# Altium integrated library Q-Resistors.IntLib: 917 symbols (part 7 of 8)
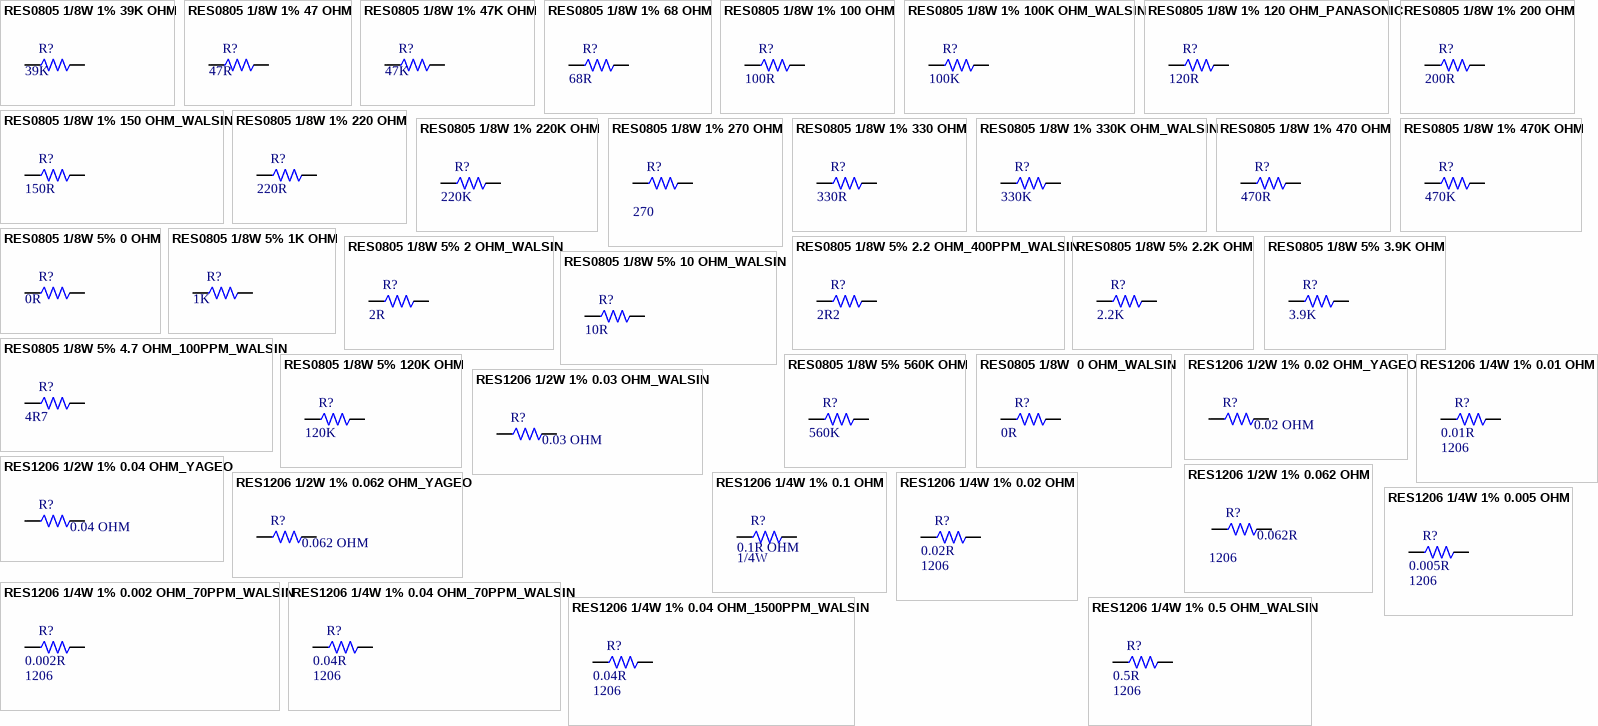
[diagram p28: symbols RES0805 1/8W 1% 39K OHM to RES1206 1/4W 1% 0.5 OHM_WALSIN]

## RES0805 1/8W 1% 470 OHM
designator R?, comment value 470R  (hidden comment: QCF081020-4700)
GP CHIP RES. 470 OHM 1/8W 1% 0805; Vendor Code: 10010262; SAP: T502470003399; Vendor Name: 东莞市晴远电子有限公司; DIP&SMD: SMD; Power: 1/8W; MFG Part: *; MFG: *; TOL: 1%; Type: Resistor; PACKAGE: 0805; Customer Specific: N/A
footprint 0805-RW
footprint 0805-SW
pins: 1, 2

## RES0805 1/8W 1% 470K OHM
designator R?, comment value 470K  (hidden comment: QCF081020-4703)
CHIP RES. 470K OHM 1/8W 1% 0805; Vendor Code: 10010262; SAP: T502470303399; Vendor Name: 东莞市晴远电子有限公司; DIP&SMD: SMD; Power: 1/8W; MFG Part: *; MFG: *; TOL: 1%; Type: Resistor; PACKAGE: 0805; Customer Specific: N/A
footprint 0805-RW
footprint 0805-SW
pins: 1, 2

## RES0805 1/8W 5% 0 OHM
designator R?, comment value 0R  (hidden comment: QCF085020-0000)
GP CHIP RES. 0 OHM 1/8W 5% 0805; Vendor Code: 10010262; SAP: T5020000034A9; Vendor Name: 东莞市晴远电子有限公司; MFG: WALSIN (華新); DIP&SMD: SMD; Power: 1/8W; MFG Part: *; TOL: 5%; Type: Resistor; PACKAGE: 0805; Customer Specific: N/A
footprint 0805-RW
footprint 0805-SW
pins: 1, 2

## RES0805 1/8W 5% 1K OHM
designator R?, comment value 1K  (hidden comment: QCF085020-1020)
GP CHIP RES. 1K OHM 1/8W 5% 0805; Vendor Code: 10010262; SAP: T502010203499; Vendor Name: 东莞市晴远电子有限公司; DIP&SMD: SMD; Power: 1/8W; MFG Part: *; MFG: *; TOL: 5%; Type: Resistor; PACKAGE: 0805; Customer Specific: N/A
footprint 0805-RW
footprint 0805-SW
pins: 1, 2

## RES0805 1/8W 5% 2 OHM_WALSIN
designator R?, comment value 2R  (hidden comment: T502020A034A9)
CHIP 2 OHM 200PPM +-5% 0805 WALS G; Power: 1/8W; MFG: WALSIN (華新); TOL: 5%; CREATE_Name: Nathan; DIP&SMD: SMD; Vendor Code: *; SAP: T502020A034A9; Vendor Name: *; MFG Part: *; Type: Resistor; CREATE_Time: 03-July-2016; PACKAGE: 0805; Customer Specific: N/A
footprint 0805-RW
footprint 0805-SW
pins: 1, 2

## RES0805 1/8W 5% 2.2 OHM_400PPM_WALSIN
designator R?, comment value 2R2  (hidden comment: T502022A034B9)
CHIP 2.2 OHM 400PPM +-5% 0805 WALS L; Power: 1/8W; MFG: WALSIN (華新); TOL: 5%; CREATE_Name: Nathan; DIP&SMD: SMD; Vendor Code: *; SAP: T502022A034B9; Vendor Name: *; MFG Part: *; Type: Resistor; CREATE_Time: 03-July-2016; PACKAGE: 0805; Customer Specific: N/A
footprint 0805-RW
footprint 0805-SW
pins: 1, 2

## RES0805 1/8W 5% 2.2K OHM
designator R?, comment value 2.2K  (hidden comment: QCF085020-2220)
GP CHIP RES. 2.2K OHM 1/8W 5% 0805; Vendor Code: 10010262; SAP: T502022203499; Vendor Name: 东莞市晴远电子有限公司; DIP&SMD: SMD; Power: 1/8W; MFG Part: *; MFG: *; TOL: 5%; Type: Resistor; PACKAGE: 0805; Customer Specific: N/A
footprint 0805-RW
footprint 0805-SW
pins: 1, 2

## RES0805 1/8W 5% 3.9K OHM
designator R?, comment value 3.9K  (hidden comment: QCF085020-3920)
GP CHIP RES. 3.9K OHM 1/8W 5% 0805; Vendor Code: 10010262; SAP: T502039203499; Vendor Name: 东莞市晴远电子有限公司; DIP&SMD: SMD; Power: 1/8W; MFG Part: *; MFG: *; TOL: 5%; Type: Resistor; PACKAGE: 0805; Customer Specific: N/A
footprint 0805-RW
footprint 0805-SW
pins: 1, 2

## RES0805 1/8W 5% 4.7 OHM_100PPM_WALSIN
designator R?, comment value 4R7  (hidden comment: T502047A03499)
CHIP 4.7 OHM   100PPM +-5% 0805 WALS L; Power: 1/8W; MFG: WALSIN (華新); TOL: 5%; CREATE_Name: Nathan; DIP&SMD: SMD; Vendor Code: *; SAP: T502047A03499; Vendor Name: *; MFG Part: *; Type: Resistor; CREATE_Time: 03-July-2016; PACKAGE: 0805; Customer Specific: N/A
footprint 0805-RW
footprint 0805-SW
pins: 1, 2

## RES0805 1/8W 5% 10 OHM_WALSIN
designator R?, comment value 10R  (hidden comment: T5020100034A9)
CHIP 10 OHM 200PPM +-5% 0805 WALS L; Power: 1/8W; MFG: WALSIN (華新); TOL: 5%; CREATE_Name: Nathan; DIP&SMD: SMD; Vendor Code: *; SAP: T5020100034A9; Vendor Name: *; MFG Part: *; Type: Resistor; CREATE_Time: 03-July-2016; PACKAGE: 0805; Customer Specific: N/A
footprint 0805-RW
footprint 0805-SW
pins: 1, 2

## RES0805 1/8W 5% 120K OHM
designator R?, comment value 120K  (hidden comment: QCF085020-1240)
GP CHIP RES. 120K OHM 1/8W 5% 0805; Vendor Code: 10010262; SAP: T502012403499; Vendor Name: 东莞市晴远电子有限公司; DIP&SMD: SMD; Power: 1/8W; MFG Part: *; MFG: *; TOL: 5%; Type: Resistor; PACKAGE: 0805; Customer Specific: N/A
footprint 0805-RW
footprint 0805-SW
pins: 1, 2

## RES0805 1/8W 5% 560K OHM
designator R?, comment value 560K  (hidden comment: QCF085020-5640)
GP CHIP RES. 560K OHM 1/8W 5% 0805; Vendor Code: 10010262; SAP: T502056403499; Vendor Name: 东莞市晴远电子有限公司; DIP&SMD: SMD; Power: 1/8W; MFG Part: *; MFG: *; TOL: 5%; Type: Resistor; PACKAGE: 0805; Customer Specific: N/A
footprint 0805-RW
footprint 0805-SW
pins: 1, 2

## RES0805 1/8W  0 OHM_WALSIN
designator R?, comment value 0R  (hidden comment: T502000003009)
CHIP 0 OHM 0 OHM 0 OHM 0805 WALSI L; Power: 1/8W; MFG: WALSIN; CREATE_Name: Tom; DIP&SMD: SMD; Vendor Code: *; SAP: T502000003009; Vendor Name: *; MFG Part: *; TOL: *; Type: Resistor; CREATE_Time: 27-Jun-2018; PACKAGE: 0805; Customer Specific: N/A
footprint 0805-RW
footprint 0805-SW
pins: 1, 2

## RES1206 1/2W 1% 0.02 OHM_YAGEO
designator R?  value 0.02 OHM  (hidden comment: *)
CHIP 0.02 OHM +-1% 1206 YAGEO; MFG Part: RL1206FR-070R02L; TOL: 1%; MFG: YAGEO (國巨); Power: 0.5W; CREATE_NAME: Nathan; DIP&SMD: SMD; SAP: *; Package: 1206; Vendor Code: *; Vendor Name: *; Type: Resistor; CREATE_TIME: 10-Jul-2020; Customer Specific: N/A
footprint 1206-RW
footprint 1206-SW
pins: 1, 2

## RES1206 1/2W 1% 0.03 OHM_WALSIN
designator R?  value 0.03 OHM  (hidden comment: *)
CHIP 0.03 OHM +-1% 1206 WALSIN; MFG Part: WW12MR030FTL; TOL: 1%; Power: 0.5W; CREATE_NAME: Nathan; DIP&SMD: SMD; SAP: *; Package: 1206; MFG: WALSIN; Vendor Code: *; Vendor Name: *; Type: Resistor; CREATE_TIME: 14-Jul-2020; Customer Specific: N/A
footprint 1206-RW
footprint 1206-SW
pins: 1, 2

## RES1206 1/2W 1% 0.04 OHM_YAGEO
designator R?  value 0.04 OHM  (hidden comment: *)
CHIP 0.04 OHM +-1% 1206 YAGEO; MFG Part: RL1206FR-070R04L; TOL: 1%; MFG: YAGEO (國巨); Power: 0.5W; CREATE_NAME: Nathan; DIP&SMD: SMD; SAP: *; Package: 1206; Vendor Code: *; Vendor Name: *; Type: Resistor; CREATE_TIME: 10-Jul-2020; Customer Specific: N/A
footprint 1206-RW
footprint 1206-SW
pins: 1, 2

## RES1206 1/2W 1% 0.062 OHM
designator R?, comment value 0.062R  Package: 1206  (hidden comment: QCF021010-620A)
CHIP RES 0.062 OHM 1% 1/2W 1206; SAP: T502620D04399; Power: 0.5W; CREATE_NAME: Nathan; DIP&SMD: SMD; TOL: 1%; MFG Part: *; MFG: *; Vendor Code: *; Vendor Name: *; Type: Resistor; CREATE_TIME: 13-Nov-2014; Customer Specific: N/A
footprint 1206-RW
footprint 1206-SW
pins: 1, 2

## RES1206 1/2W 1% 0.062 OHM_YAGEO
designator R?  value 0.062 OHM  (hidden comment: *)
CHIP 0.062OHM +-1% 1206 YAGEO; MFG Part: RL1206FR-070R062L; TOL: 1%; Power: 0.5W; CREATE_NAME: Nathan; CREATE_TIME: 21Jul-2020; DIP&SMD: SMD; SAP: *; Package: 1206; MFG: YAGEO; Vendor Code: *; Vendor Name: *; Type: Resistor; Customer Specific: N/A
footprint 1206-RW
footprint 1206-SW
pins: 1, 2

## RES1206 1/4W 1% 0.01 OHM
designator R?, comment value 0.01R  PACKAGE: 1206  (hidden comment: QCF041010-1006)
CHIP RES 0.01OHM 1/4W 1% 1206; Vendor Code: 10010262; SAP: T502100D043C9; Vendor Name: 东莞市晴远电子有限公司; DIP&SMD: SMD; Power: 1/4W; MFG Part: *; MFG: *; TOL: 1%; Type: Resistor; Customer Specific: N/A
footprint 1206-RW
footprint 1206-SW
pins: 1, 2

## RES1206 1/4W 1% 0.1 OHM
designator R?, comment value 0.1R OHM  Power: 1/4W  (hidden comment: QCF041010-1007)
GP CHIP RES. 0.1 OHM 1/4W 1% 1206; SAP: T502100C043C9; CREATE_NAME: TOM@Deftronics; DIP&SMD: SMD; TOL: 1%; MFG Part: *; MFG: *; Vendor Code: *; Vendor Name: *; Type: Resistor; CREATE_TIME: 05-Aug-2013; Package: 1206; Customer Specific: N/A
footprint 1206-RW
footprint 1206-SW
pins: 1, 2

## RES1206 1/4W 1% 0.02 OHM
designator R?, comment value 0.02R  PACKAGE: 1206  (hidden comment: QCF041010-2006)
CHIP RES 0.02 OHM 1/4W 1% 1206; Vendor Code: 10010262; SAP: T502200D043C9; Vendor Name: 东莞市晴远电子有限公司; DIP&SMD: SMD; Power: 1/4W; MFG Part: *; TOL: 1%; Type: Resistor; MFG: *; Customer Specific: N/A
footprint 1206-RW
footprint 1206-SW
pins: 1, 2

## RES1206 1/4W 1% 0.002 OHM_70PPM_WALSIN
designator R?, comment value 0.002R  PACKAGE: 1206  (hidden comment: T502200E043N9)
CHIP 0.002 OHM 70PPM +-1% 1206 WALS L; MFG Part: WW12RR002FTL; Power: 1/4W; MFG: WALSIN; TOL: 1%; CREATE_NAME: Nathan; DIP&SMD: SMD; Vendor Code: *; SAP: T502200E043N9; Vendor Name: *; Type: Resistor; CREATE_TIME: 17-Feb-2020; Customer Specific: N/A
footprint 1206-RW
footprint 1206-SW
pins: 1, 2

## RES1206 1/4W 1% 0.04 OHM_70PPM_WALSIN
designator R?, comment value 0.04R  PACKAGE: 1206  (hidden comment: T710600017000)
CHIP 0.04 OHM 70PPM +-1% 1206 WW12DR04 L; MFG Part: WW12DR040FTL; Power: 1/4W; MFG: WALSIN (華新); TOL: 1%; CREATE_NAME: Nathan; DIP&SMD: SMD; Vendor Code: *; SAP: T710600017000; Vendor Name: *; Type: Resistor; CREATE_TIME: 08-Dec-2017; Customer Specific: N/A
footprint 1206-RW
footprint 1206-SW
pins: 1, 2

## RES1206 1/4W 1% 0.04 OHM_1500PPM_WALSIN
designator R?, comment value 0.04R  PACKAGE: 1206  (hidden comment: T502400D043C9)
CHIP 0.04 OHM  1500PP +-1% 1206 WALS L; Power: 1/4W; MFG: WALSIN (華新); TOL: 1%; CREATE_NAME: Nathan; DIP&SMD: SMD; Vendor Code: *; SAP: T502400D043C9; Vendor Name: *; MFG Part: *; Type: Resistor; CREATE_TIME: 03-July-2016; Customer Specific: N/A
footprint 1206-RW
footprint 1206-SW
pins: 1, 2

## RES1206 1/4W 1% 0.005 OHM
designator R?, comment value 0.005R  PACKAGE: 1206  (hidden comment: QCF041010-5005)
CHIP RES 0.005 OHM 1/4W 1% 1206; Vendor Code: 10010262; SAP: T502500E043G9; Vendor Name: 东莞市晴远电子有限公司; DIP&SMD: SMD; Power: 1/4W; MFG Part: *; MFG: *; TOL: 1%; Type: Resistor; Customer Specific: N/A
footprint 1206-RW
footprint 1206-SW
pins: 1, 2

## RES1206 1/4W 1% 0.5 OHM_WALSIN
designator R?, comment value 0.5R  PACKAGE: 1206  (hidden comment: T502500C04399)
CHIP 0.5 OHM   100PPM +-1% 1206 WALS L; Power: 1/4W; MFG: WALSIN (華新); TOL: 1%; CREATE_NAME: Nathan; DIP&SMD: SMD; Vendor Code: *; SAP: T502500C04399; Vendor Name: *; MFG Part: *; Type: Resistor; CREATE_TIME: 03-July-2016; Customer Specific: N/A
footprint 1206-RW
footprint 1206-SW
pins: 1, 2

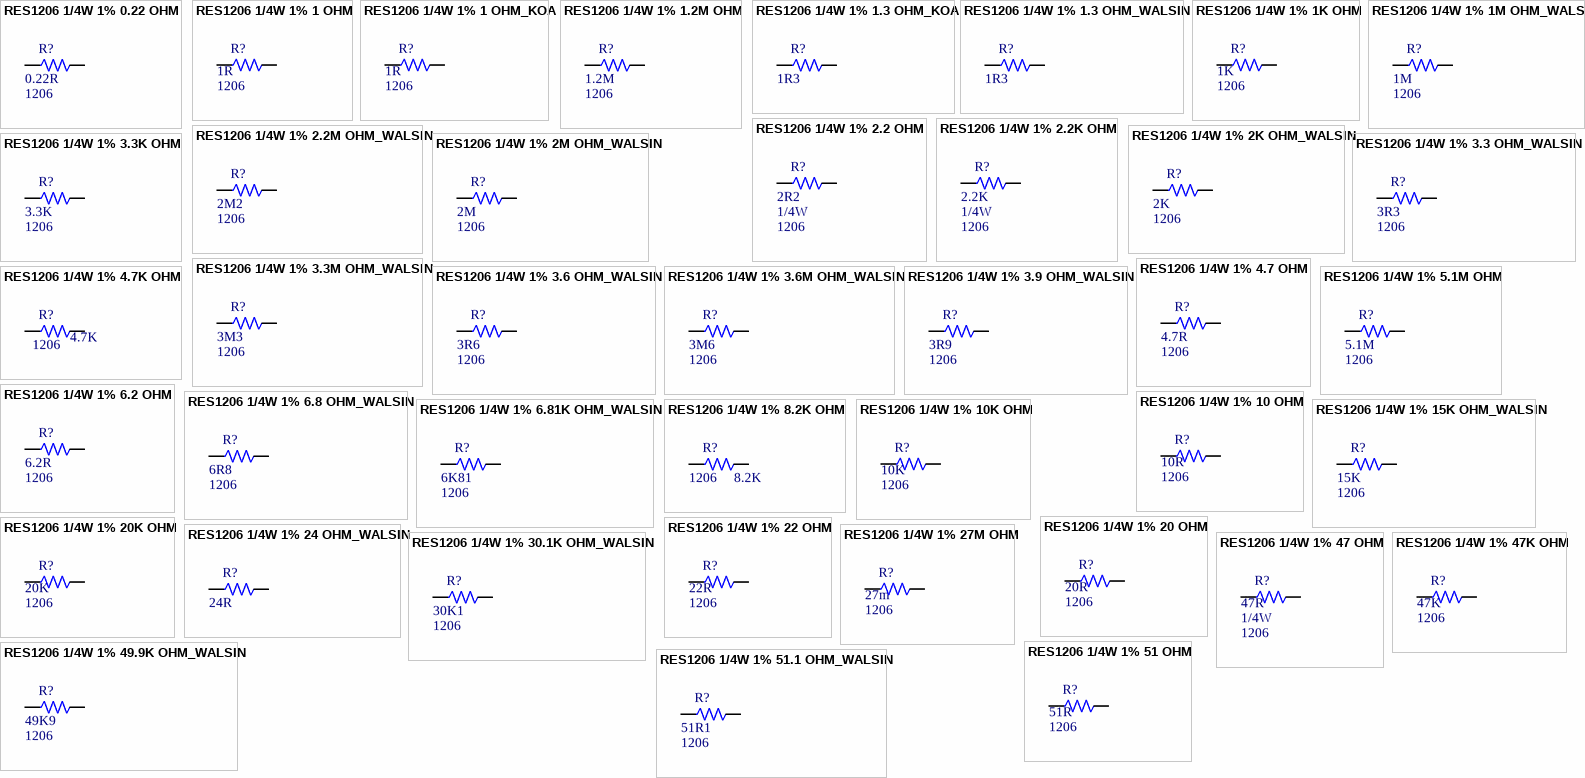
[diagram p20: symbols RES1206 1/4W 1% 0.22 OHM to RES1206 1/4W 1% 51.1 OHM_WALSIN]

## RES1206 1/4W 1% 0.22 OHM
designator R?, comment value 0.22R  PACKAGE: 1206  (hidden comment: QCF041010-2207)
CHIP RES. 0.22 OHM 1/4W 1% 1206; SAP: T502220C043C9; MFG: WALSIN; DIP&SMD: SMD; Vendor Code: *; Power: 1/4W; Vendor Name: *; MFG Part: *; TOL: 1%; Type: Resistor; Customer Specific: N/A
footprint 1206-RW
footprint 1206-SW
pins: 1, 2

## RES1206 1/4W 1% 1 OHM
designator R?, comment value 1R  PACKAGE: 1206  (hidden comment: QCF041010-1008)
CHIP RES 1 OHM 1/4W 1% 1206; Vendor Code: 10010262; SAP: T502100B04399; Vendor Name: 东莞市晴远电子有限公司; DIP&SMD: SMD; Power: 1/4W; MFG Part: *; MFG: *; TOL: 1%; Type: Resistor; Customer Specific: N/A
footprint 1206-RW
footprint 1206-SW
pins: 1, 2

## RES1206 1/4W 1% 1 OHM_KOA
designator R?, comment value 1R  PACKAGE: 1206  (hidden comment: T710600016600)
CHIP 1 OHM 100PPM +-1% 1206 KOA K; MFG Part: SR732BTTD1R00F; Power: 1/4W; TOL: 1%; CREATE_NAME: Nathan; DIP&SMD: SMD; Vendor Code: *; SAP: T710600016600; Vendor Name: *; MFG: KOA; Type: Resistor; CREATE_TIME: 12-Sep-2017; Customer Specific: N/A
footprint 1206-RW
footprint 1206-SW
pins: 1, 2

## RES1206 1/4W 1% 1.2M OHM
designator R?, comment value 1.2M  PACKAGE: 1206  (hidden comment: QCF041010-1204)
CHIP RES 1/4W 1% 1.2M OHM  1206; SAP: T502120404399; Power: 0.25W; MFG: TA-I; CREATE_NAME: Nathan@Tymphany; DIP&SMD: SMD; Vendor Code: *; Vendor Name: *; MFG Part: *; TOL: 1%; Type: Resistor; CREATE_TIME: 24-July-2014; Customer Specific: N/A
footprint 1206-RW
footprint 1206-SW
pins: 1, 2

## RES1206 1/4W 1% 1.3 OHM_KOA
designator R?, comment value 1R3  (hidden comment: T710600016700)
CHIP 1.3 OHM 100PPM +-1% 1206 KOA K; MFG Part: SR732BTTD1R30F; Power: 1/4W; TOL: 1%; CREATE_NAME: Nathan; DIP&SMD: SMD; Vendor Code: *; SAP: T710600016700; Vendor Name: *; MFG: KOA; Type: Resistor; PACKAGE: 1206; CREATE_TIME: 12-Sep-2017; Customer Specific: N/A
footprint 1206-RW
footprint 1206-SW
pins: 1, 2

## RES1206 1/4W 1% 1.3 OHM_WALSIN
designator R?, comment value 1R3  (hidden comment: T502130B04399)
CHIP 1.3 OHM   100PPM +-1% 1206 WALS L; Power: 1/4W; MFG: WALSIN (華新); TOL: 1%; CREATE_NAME: Nathan; DIP&SMD: SMD; Vendor Code: *; SAP: T502130B04399; Vendor Name: *; MFG Part: *; Type: Resistor; PACKAGE: 1206; CREATE_TIME: 21-Feb-2017; Customer Specific: N/A
footprint 1206-RW
footprint 1206-SW
pins: 1, 2

## RES1206 1/4W 1% 1K OHM
designator R?, comment value 1K  PACKAGE: 1206  (hidden comment: QCF041010-1001)
GP CHIP RES 1K OHM 1/4 W 1% TF 1206; Vendor Code: 10010262; SAP: T502100104399; Power: 1/4W; Vendor Name: 东莞市晴远电子有限公司; DIP&SMD: SMD; MFG Part: *; MFG: *; TOL: 1%; Type: Resistor; Customer Specific: N/A
footprint 1206-RW
footprint 1206-SW
pins: 1, 2

## RES1206 1/4W 1% 1M OHM_WALSIN
designator R?, comment value 1M  PACKAGE: 1206  (hidden comment: T502100404399)
CHIP 1M OHM 100PPM +-1% 1206 WALS L; Power: 1/4W; MFG: WALSIN (華新); TOL: 1%; CREATE_NAME: Nathan; DIP&SMD: SMD; Vendor Code: *; SAP: T502100404399; Vendor Name: *; MFG Part: *; Type: Resistor; CREATE_TIME: 03-July-2016; Customer Specific: N/A
footprint 1206-RW
footprint 1206-SW
pins: 1, 2

## RES1206 1/4W 1% 2.2 OHM
designator R?, comment value 2R2  Power: 1/4W  PACKAGE: 1206  (hidden comment: T502220B04399)
CHIP 2.2 OHM 100PPM +-1% 1206 WALS L; MFG: WALSIN (華新); TOL: 1%; DIP&SMD: SMD; Vendor Code: *; SAP: T502220B04399; Vendor Name: *; MFG Part: *; Type: Resistor; Customer Specific: N/A
footprint 1206-RW
footprint 1206-SW
pins: 1, 2

## RES1206 1/4W 1% 2.2K OHM
designator R?, comment value 2.2K  Power: 1/4W  PACKAGE: 1206  (hidden comment: QCF041010-2201)
CHIP RES. 2.2K OHM 1/4W 1% 1206; Vendor Code: 10010262; SAP: T502220104399; Vendor Name: 东莞市晴远电子有限公司; DIP&SMD: SMD; MFG Part: *; MFG: *; TOL: 1%; Type: Resistor; Customer Specific: N/A
footprint 1206-RW
footprint 1206-SW
pins: 1, 2

## RES1206 1/4W 1% 2.2M OHM_WALSIN
designator R?, comment value 2M2  PACKAGE: 1206  (hidden comment: T502220404399)
CHIP 2.2M OHM 100PPM +-1% 1206 WALS K; Power: 1/4W; MFG: WALSIN (華新); TOL: 1%; CREATE_NAME: Nathan; DIP&SMD: SMD; Vendor Code: *; SAP: T502220404399; Vendor Name: *; MFG Part: *; Type: Resistor; CREATE_TIME: 13-May-2019; Customer Specific: N/A
footprint 1206-RW
footprint 1206-SW
pins: 1, 2

## RES1206 1/4W 1% 2K OHM_WALSIN
designator R?, comment value 2K  PACKAGE: 1206  (hidden comment: T502200104399)
CHIP 2K OHM 100PPM +-1% 1206 WALS L; MFG Part: WR12X2001FTL; Power: 1/4W; MFG: WALSIN; TOL: 1%; CREATE_NAME: Tom; DIP&SMD: SMD; Vendor Code: *; SAP: T502200104399; Vendor Name: *; Type: Resistor; CREATE_TIME: 07-Aug-2019; Customer Specific: N/A
footprint 1206-RW
footprint 1206-SW
pins: 1, 2

## RES1206 1/4W 1% 2M OHM_WALSIN
designator R?, comment value 2M  PACKAGE: 1206  (hidden comment: T502200404399)
CHIP 2M OHM 100PPM +-1% 1206 WALS L; Power: 1/4W; MFG: WALSIN (華新); TOL: 1%; CREATE_NAME: Nathan; DIP&SMD: SMD; Vendor Code: *; SAP: T502200404399; Vendor Name: *; MFG Part: *; Type: Resistor; CREATE_TIME: 23-Sep-2019; Customer Specific: N/A
footprint 1206-RW
footprint 1206-SW
pins: 1, 2

## RES1206 1/4W 1% 3.3 OHM_WALSIN
designator R?, comment value 3R3  PACKAGE: 1206  (hidden comment: T502330B04399)
CHIP 3.3 OHM   100PPM +-1% 1206 WALS G; Power: 1/4W; MFG: WALSIN (華新); TOL: 1%; CREATE_NAME: Nathan; DIP&SMD: SMD; Vendor Code: *; SAP: T502330B04399; Vendor Name: *; MFG Part: *; Type: Resistor; CREATE_TIME: 03-July-2016; Customer Specific: N/A
footprint 1206-RW
footprint 1206-SW
pins: 1, 2

## RES1206 1/4W 1% 3.3K OHM
designator R?, comment value 3.3K  PACKAGE: 1206  (hidden comment: QCF041010-3301)
CHIP RES 3.3K OHM 1/4W 1% 1206; Vendor Code: 10010262; SAP: T502330104399; Vendor Name: 东莞市晴远电子有限公司; DIP&SMD: SMD; Power: 1/4W; MFG Part: *; MFG: *; TOL: 1%; Type: Resistor; Customer Specific: N/A
footprint 1206-RW
footprint 1206-SW
pins: 1, 2

## RES1206 1/4W 1% 3.3M OHM_WALSIN
designator R?, comment value 3M3  PACKAGE: 1206  (hidden comment: T502330404399)
CHIP 3.3M OHM  100PPM +-1% 1206 WALS L; Power: 1/4W; MFG: WALSIN (華新); TOL: 1%; CREATE_NAME: Nathan; DIP&SMD: SMD; Vendor Code: *; SAP: T502330404399; Vendor Name: *; MFG Part: *; Type: Resistor; CREATE_TIME: 03-July-2016; Customer Specific: N/A
footprint 1206-RW
footprint 1206-SW
pins: 1, 2

## RES1206 1/4W 1% 3.6 OHM_WALSIN
designator R?, comment value 3R6  PACKAGE: 1206  (hidden comment: T502360B04339)
CHIP 3.6 OHM 1% SER +-1% 1206 WALS L; MFG Part: WR12W3R60FTL; Power: 1/4W; MFG: WALSIN (華新); CREATE_NAME: Nathan; DIP&SMD: SMD; Vendor Code: *; SAP: T502360B04339; Vendor Name: *; TOL: 1%; Type: Resistor; CREATE_TIME: 23-Oct-2019; Customer Specific: N/A
footprint 1206-RW
footprint 1206-SW
pins: 1, 2

## RES1206 1/4W 1% 3.6M OHM_WALSIN
designator R?, comment value 3M6  PACKAGE: 1206  (hidden comment: T5023604043A9)
CHIP 3.6M OHM  200PPM +-1% 1206 WALS L; Power: 1/4W; MFG: WALSIN (華新); TOL: 1%; CREATE_NAME: Nathan; DIP&SMD: SMD; Vendor Code: *; SAP: T5023604043A9; Vendor Name: *; MFG Part: *; Type: Resistor; CREATE_TIME: 03-July-2016; Customer Specific: N/A
footprint 1206-RW
footprint 1206-SW
pins: 1, 2

## RES1206 1/4W 1% 3.9 OHM_WALSIN
designator R?, comment value 3R9  PACKAGE: 1206  (hidden comment: T502390B04399)
CHIP 3.9 OHM 100PPM +-1% 1206 WALS L; Power: 1/4W; MFG: WALSIN (華新); TOL: 1%; CREATE_NAME: Nathan; DIP&SMD: SMD; Vendor Code: *; SAP: T502390B04399; Vendor Name: *; MFG Part: *; Type: Resistor; CREATE_TIME: 03-July-2016; Customer Specific: N/A
footprint 1206-RW
footprint 1206-SW
pins: 1, 2

## RES1206 1/4W 1% 4.7 OHM
designator R?, comment value 4.7R  PACKAGE: 1206  (hidden comment: QCF041010-4708)
CHIP RES 4.7 OHM 1/4 W 1% 1206; Vendor Code: 10010262; SAP: T502470B04399; Power: 1/4W; Vendor Name: 东莞市晴远电子有限公司; DIP&SMD: SMD; MFG Part: *; MFG: *; TOL: 1%; Type: Resistor; Customer Specific: N/A
footprint 1206-RW
footprint 1206-SW
pins: 1, 2

## RES1206 1/4W 1% 4.7K OHM
designator R?, comment value 4.7K  Package: 1206  (hidden comment: T502470104399)
CHIP 4.7K OHM 100PPM +-1% 1206 WALS L; TOL: 1%; MFG: WALSIN; Power: 1/4W; CREATE_NAME: Tom; DIP&SMD: SMD; SAP: T502470104399; MFG Part: *; Vendor Code: *; Vendor Name: *; Type: Resistor; CREATE_TIME: 12-May-2016; Customer Specific: N/A
footprint 1206-RW
footprint 1206-SW
pins: 1, 2

## RES1206 1/4W 1% 5.1M OHM
designator R?, comment value 5.1M  PACKAGE: 1206  (hidden comment: QCF041010-5104)
CHIP RES 5.1M OHM 1/4W 1% 1206; Vendor Code: 10010262; SAP: T502510404399; Vendor Name: 东莞市晴远电子有限公司; DIP&SMD: SMD; Power: 1/4W; MFG Part: *; MFG: *; TOL: 1%; Type: Resistor; Customer Specific: N/A
footprint 1206-RW
footprint 1206-SW
pins: 1, 2

## RES1206 1/4W 1% 6.2 OHM
designator R?, comment value 6.2R  PACKAGE: 1206  (hidden comment: QCF045010-6290)
GP CHIP RES. 6.2 OHM 1/4W 5% 1206; Vendor Code: 10010262; SAP: T502062A04499; Vendor Name: 东莞市晴远电子有限公司; TOL: 1%; DIP&SMD: SMD; Power: 1/4W; MFG Part: *; MFG: *; Type: Resistor; Customer Specific: N/A
footprint 1206-RW
footprint 1206-SW
pins: 1, 2

## RES1206 1/4W 1% 6.8 OHM_WALSIN
designator R?, comment value 6R8  PACKAGE: 1206  (hidden comment: T502680B04399)
CHIP 6.8 OHM   100PPM +-1% 1206 WALS L; Power: 1/4W; MFG: WALSIN (華新); TOL: 1%; CREATE_NAME: Nathan; DIP&SMD: SMD; Vendor Code: *; SAP: T502680B04399; Vendor Name: *; MFG Part: *; Type: Resistor; CREATE_TIME: 03-July-2016; Customer Specific: N/A
footprint 1206-RW
footprint 1206-SW
pins: 1, 2

## RES1206 1/4W 1% 6.81K OHM_WALSIN
designator R?, comment value 6K81  PACKAGE: 1206  (hidden comment: T502681104399)
CHIP 6.81K OHM 100PPM +-1% 1206 WALS L; Power: 1/4W; MFG: WALSIN (華新); TOL: 1%; CREATE_NAME: Nathan; DIP&SMD: SMD; Vendor Code: *; SAP: T502681104399; Vendor Name: *; MFG Part: *; Type: Resistor; CREATE_TIME: 03-July-2016; Customer Specific: N/A
footprint 1206-RW
footprint 1206-SW
pins: 1, 2

## RES1206 1/4W 1% 8.2K OHM
designator R?, comment value 8.2K  Package: 1206  (hidden comment: T502820104399)
CHIP 8.2K OHM 100PPM +-1% 1206 WALS L; MFG Part: WR12X8201FTL; TOL: 1%; MFG: WALSIN; Power: 1/4W; CREATE_NAME: Tom; DIP&SMD: SMD; SAP: T502820104399; Vendor Code: *; Vendor Name: *; Type: Resistor; CREATE_TIME: 12-Apr-2016; Customer Specific: N/A
footprint 1206-RW
footprint 1206-SW
pins: 1, 2

## RES1206 1/4W 1% 10 OHM
designator R?, comment value 10R  PACKAGE: 1206  (hidden comment: QCF041011-1009)
CHIP 10 OHM 100PPM +-1% 1206 WALS L; Vendor Code: 10010262; SAP: T502100A04399; Power: 1/4W; Vendor Name: 东莞市晴远电子有限公司; TOL: 1%; DIP&SMD: SMD; MFG Part: *; MFG: *; Type: Resistor; Customer Specific: N/A
footprint 1206-RW
footprint 1206-SW
pins: 1, 2

## RES1206 1/4W 1% 10K OHM
designator R?, comment value 10K  PACKAGE: 1206  (hidden comment: QCF041010-1002)
GP CHIP RES. 10K OHM 1/4  W 1% TF 1206; Vendor Code: 10010262; SAP: T502100204399; Power: 1/4W; Vendor Name: 东莞市晴远电子有限公司; DIP&SMD: SMD; MFG Part: *; MFG: *; TOL: 1%; Type: Resistor; Customer Specific: N/A
footprint 1206-RW
footprint 1206-SW
pins: 1, 2

## RES1206 1/4W 1% 15K OHM_WALSIN
designator R?, comment value 15K  PACKAGE: 1206  (hidden comment: T502150204399)
CHIP 15K OHM 100PPM +-1% 1206 WALS L; Power: 1/4W; MFG: WALSIN (華新); TOL: 1%; CREATE_NAME: Nathan; DIP&SMD: SMD; Vendor Code: *; SAP: T502150204399; Vendor Name: *; MFG Part: *; Type: Resistor; CREATE_TIME: 03-July-2016; Customer Specific: N/A
footprint 1206-RW
footprint 1206-SW
pins: 1, 2

## RES1206 1/4W 1% 20 OHM
designator R?, comment value 20R  PACKAGE: 1206  (hidden comment: QCF041011-2009)
CHIP 20 OHM 100PPM +-1% 1206 WALS L; Vendor Code: 10010262; SAP: T502200A04399; Power: 1/4W; Vendor Name: 东莞市晴远电子有限公司; MFG: WALSIN (華新); TOL: 1%; DIP&SMD: SMD; MFG Part: *; Type: Resistor; Customer Specific: N/A
footprint 1206-RW
footprint 1206-SW
pins: 1, 2

## RES1206 1/4W 1% 20K OHM
designator R?, comment value 20K  PACKAGE: 1206  (hidden comment: QCF041010-2002)
CHIP RES. 20K OHM 1/4W 1% 1206; Vendor Code: 10010262; SAP: T502200204399; Vendor Name: 东莞市晴远电子有限公司; DIP&SMD: SMD; Power: 1/4W; MFG Part: *; MFG: *; TOL: 1%; Type: Resistor; Customer Specific: N/A
footprint 1206-RW
footprint 1206-SW
pins: 1, 2

## RES1206 1/4W 1% 22 OHM
designator R?, comment value 22R  PACKAGE: 1206  (hidden comment: QCF041011-2209)
CHIP RES. 22 OHM 1/4W 1% 1206; Vendor Code: 10010262; SAP: T502220A04399; Vendor Name: 东莞市晴远电子有限公司; DIP&SMD: SMD; Power: 1/4W; MFG Part: *; MFG: *; TOL: 1%; Type: Resistor; Customer Specific: N/A
footprint 1206-RW
footprint 1206-SW
pins: 1, 2

## RES1206 1/4W 1% 24 OHM_WALSIN
designator R?, comment value 24R  (hidden comment: T502240A04399)
CHIP 24 OHM    100PPM +-1% 1206 WALS L; Power: 1/4W; MFG: WALSIN (華新); TOL: 1%; CREATE_NAME: Nathan; DIP&SMD: SMD; Vendor Code: *; SAP: T502240A04399; Vendor Name: *; MFG Part: *; Type: Resistor; PACKAGE: 1206; CREATE_TIME: 21-Feb-2017; Customer Specific: N/A
footprint 1206-RW
footprint 1206-SW
pins: 1, 2

## RES1206 1/4W 1% 27M OHM
designator R?, comment value 27m  PACKAGE: 1206  (hidden comment: QCF041010-2705)
CHIP RES 1/4W 1% 27m OHM 1206; SAP: T502270D043C9; CREATE_NAME: GordonL@Deftronics; DIP&SMD: SMD; Vendor Code: *; Power: 1/4W; Vendor Name: *; MFG Part: *; MFG: *; TOL: 1%; Type: Resistor; CREATE_TIME: 19-Feb-2014; Customer Specific: N/A
footprint 1206-RW
footprint 1206-SW
pins: 1, 2

## RES1206 1/4W 1% 30.1K OHM_WALSIN
designator R?, comment value 30K1  PACKAGE: 1206  (hidden comment: T502301204399)
CHIP 30.1K OHM 100PPM +-1% 1206 WALS L; Power: 1/4W; MFG: WALSIN (華新); TOL: 1%; CREATE_NAME: Nathan; DIP&SMD: SMD; Vendor Code: *; SAP: T502301204399; Vendor Name: *; MFG Part: *; Type: Resistor; CREATE_TIME: 03-July-2016; Customer Specific: N/A
footprint 1206-RW
footprint 1206-SW
pins: 1, 2

## RES1206 1/4W 1% 47 OHM
designator R?, comment value 47R  Power: 1/4W  PACKAGE: 1206  (hidden comment: QCF041010-4709)
GP CHIP RES. 47 OHM 1/4  W  1% 1206; Vendor Code: 10010262; SAP: T502470A04399; Vendor Name: 东莞市晴远电子有限公司; DIP&SMD: SMD; MFG Part: *; MFG: *; TOL: 1%; Type: Resistor; Customer Specific: N/A
footprint 1206-RW
footprint 1206-SW
pins: 1, 2

## RES1206 1/4W 1% 47K OHM
designator R?, comment value 47K  PACKAGE: 1206  (hidden comment: QCF041010-4702)
CHIP RES. 47K OHM 1206 1%; Vendor Code: 10010262; SAP: T502470204399; Power: 1/4W; Vendor Name: 东莞市晴远电子有限公司; DIP&SMD: SMD; MFG Part: *; MFG: *; TOL: 1%; Type: Resistor; Customer Specific: N/A
footprint 1206-RW
footprint 1206-SW
pins: 1, 2

## RES1206 1/4W 1% 49.9K OHM_WALSIN
designator R?, comment value 49K9  PACKAGE: 1206  (hidden comment: T502499204399)
CHIP 49.9K OHM 100PPM +-1% 1206 WALS L; Power: 1/4W; MFG: WALSIN (華新); TOL: 1%; CREATE_NAME: Nathan; DIP&SMD: SMD; Vendor Code: *; SAP: T502499204399; Vendor Name: *; MFG Part: *; Type: Resistor; CREATE_TIME: 03-July-2016; Customer Specific: N/A
footprint 1206-RW
footprint 1206-SW
pins: 1, 2

## RES1206 1/4W 1% 51 OHM
designator R?, comment value 51R  PACKAGE: 1206  (hidden comment: QCF041010-5109)
CHIP RES. 51 OHM 1% 1/4W 1206; Vendor Code: 10010262; SAP: T502510A04399; Vendor Name: 东莞市晴远电子有限公司; DIP&SMD: SMD; Power: 1/4W; MFG Part: *; MFG: *; TOL: 1%; Type: Resistor; Customer Specific: N/A
footprint 1206-RW
footprint 1206-SW
pins: 1, 2

## RES1206 1/4W 1% 51.1 OHM_WALSIN
designator R?, comment value 51R1  PACKAGE: 1206  (hidden comment: T502511A04399)
CHIP 51.1 OHM  100PPM +-1% 1206 WALS L; Power: 1/4W; MFG: WALSIN (華新); TOL: 1%; CREATE_NAME: Nathan; DIP&SMD: SMD; Vendor Code: *; SAP: T502511A04399; Vendor Name: *; MFG Part: *; Type: Resistor; CREATE_TIME: 03-July-2016; Customer Specific: N/A
footprint 1206-RW
footprint 1206-SW
pins: 1, 2

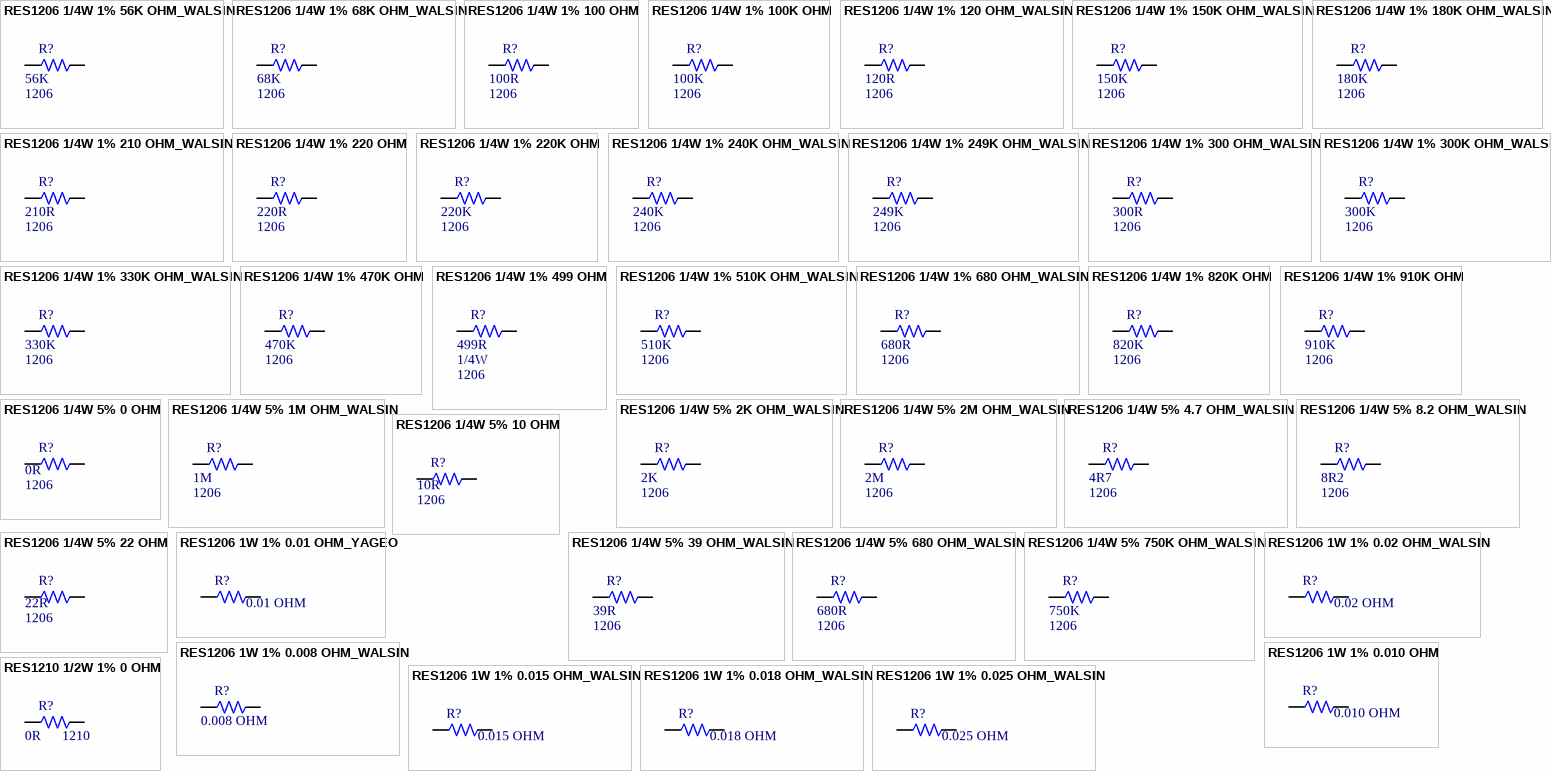
[diagram p21: symbols RES1206 1/4W 1% 56K OHM_WALSIN to RES1210 1/2W 1% 0 OHM]

## RES1206 1/4W 1% 56K OHM_WALSIN
designator R?, comment value 56K  PACKAGE: 1206  (hidden comment: T502560204399)
CHIP 56K OHM   100PPM +-1% 1206 WALS L; Power: 1/4W; MFG: WALSIN (華新); TOL: 1%; CREATE_NAME: Nathan; DIP&SMD: SMD; Vendor Code: *; SAP: T502560204399; Vendor Name: *; MFG Part: *; Type: Resistor; CREATE_TIME: 03-July-2016; Customer Specific: N/A
footprint 1206-RW
footprint 1206-SW
pins: 1, 2

## RES1206 1/4W 1% 68K OHM_WALSIN
designator R?, comment value 68K  PACKAGE: 1206  (hidden comment: T502680204399)
CHIP 68K OHM 100PPM +-1% 1206 WALS L; Power: 1/4W; MFG: WALSIN (華新); TOL: 1%; CREATE_NAME: Nathan; DIP&SMD: SMD; Vendor Code: *; SAP: T502680204399; Vendor Name: *; MFG Part: *; Type: Resistor; CREATE_TIME: 03-July-2016; Customer Specific: N/A
footprint 1206-RW
footprint 1206-SW
pins: 1, 2

## RES1206 1/4W 1% 100 OHM
designator R?, comment value 100R  PACKAGE: 1206  (hidden comment: QCF041010-1000)
GP CHIP RES. 100 OHM 1/4  W 1% TF 1206; Vendor Code: 10010262; SAP: T502100004399; Power: 1/4W; Vendor Name: 东莞市晴远电子有限公司; DIP&SMD: SMD; MFG Part: *; MFG: *; TOL: 1%; Type: Resistor; Customer Specific: N/A
footprint 1206-RW
footprint 1206-SW
pins: 1, 2

## RES1206 1/4W 1% 100K OHM
designator R?, comment value 100K  PACKAGE: 1206  (hidden comment: QCF041010-1003)
GP CHIP RES. 100K OHM 1/4 W 1% TF 1206; Vendor Code: 10010262; SAP: T502100304399; Power: 1/4W; Vendor Name: 东莞市晴远电子有限公司; DIP&SMD: SMD; MFG Part: *; MFG: *; TOL: 1%; Type: Resistor; Customer Specific: N/A
footprint 1206-RW
footprint 1206-SW
pins: 1, 2

## RES1206 1/4W 1% 120 OHM_WALSIN
designator R?, comment value 120R  PACKAGE: 1206  (hidden comment: T502120004399)
CHIP 120 OHM   100PPM +-1% 1206 WALS L; Power: 1/4W; MFG: WALSIN (華新); TOL: 1%; CREATE_NAME: Nathan; DIP&SMD: SMD; Vendor Code: *; SAP: T502120004399; Vendor Name: *; MFG Part: *; Type: Resistor; CREATE_TIME: 03-July-2016; Customer Specific: N/A
footprint 1206-RW
footprint 1206-SW
pins: 1, 2

## RES1206 1/4W 1% 150K OHM_WALSIN
designator R?, comment value 150K  PACKAGE: 1206  (hidden comment: T502150304399)
CHIP 150K OHM  100PPM +-1% 1206 WALS; Power: 1/4W; MFG: WALSIN (華新); TOL: 1%; CREATE_NAME: Nathan; DIP&SMD: SMD; Vendor Code: *; SAP: T502150304399; Vendor Name: *; MFG Part: *; Type: Resistor; CREATE_TIME: 03-July-2016; Customer Specific: N/A
footprint 1206-RW
footprint 1206-SW
pins: 1, 2

## RES1206 1/4W 1% 180K OHM_WALSIN
designator R?, comment value 180K  PACKAGE: 1206  (hidden comment: T502180304399)
CHIP 180K OHM 100PPM +-1% 1206 WALS L; Power: 1/4W; MFG: WALSIN (華新); TOL: 1%; CREATE_NAME: Nathan; DIP&SMD: SMD; Vendor Code: *; SAP: T502180304399; Vendor Name: *; MFG Part: *; Type: Resistor; CREATE_TIME: 16-Nov-2017; Customer Specific: N/A
footprint 1206-RW
footprint 1206-SW
pins: 1, 2

## RES1206 1/4W 1% 210 OHM_WALSIN
designator R?, comment value 210R  PACKAGE: 1206  (hidden comment: T502210004399)
CHIP 210 OHM 100PPM +-1% 1206 WALS L; Power: 1/4W; MFG: WALSIN (華新); TOL: 1%; CREATE_NAME: Nathan; DIP&SMD: SMD; Vendor Code: *; SAP: T502210004399; Vendor Name: *; MFG Part: *; Type: Resistor; CREATE_TIME: 03-Dec-2017; Customer Specific: N/A
footprint 1206-RW
footprint 1206-SW
pins: 1, 2

## RES1206 1/4W 1% 220 OHM
designator R?, comment value 220R  PACKAGE: 1206  (hidden comment: QCF041011-2200)
CHIP RES. 220 OHM 1/4W 1% 1206; Vendor Code: 10010262; SAP: T502220004399; Vendor Name: 东莞市晴远电子有限公司; DIP&SMD: SMD; Power: 1/4W; MFG Part: *; MFG: *; TOL: 1%; Type: Resistor; Customer Specific: N/A
footprint 1206-RW
footprint 1206-SW
pins: 1, 2

## RES1206 1/4W 1% 220K OHM
designator R?, comment value 220K  PACKAGE: 1206  (hidden comment: QCF041010-2203)
CHIP RES 220K OHM 1/4W 1% 1206; Vendor Code: 10010262; SAP: T502220304399; Vendor Name: 东莞市晴远电子有限公司; DIP&SMD: SMD; Power: 1/4W; MFG Part: *; MFG: *; TOL: 1%; Type: Resistor; Customer Specific: N/A
footprint 1206-RW
footprint 1206-SW
pins: 1, 2

## RES1206 1/4W 1% 240K OHM_WALSIN
designator R?, comment value 240K  PACKAGE: 1206  (hidden comment: T502240304399)
CHIP 240K OHM  100PPM +-1% 1206 WALS L; Power: 1/4W; MFG: WALSIN (華新); TOL: 1%; CREATE_NAME: Nathan; DIP&SMD: SMD; Vendor Code: *; SAP: T502240304399; Vendor Name: *; MFG Part: *; Type: Resistor; CREATE_TIME: 03-July-2016; Customer Specific: N/A
footprint 1206-RW
footprint 1206-SW
pins: 1, 2

## RES1206 1/4W 1% 249K OHM_WALSIN
designator R?, comment value 249K  PACKAGE: 1206  (hidden comment: T502249304399)
CHIP 249K OHM  100PPM +-1% 1206 WALS L; Power: 1/4W; MFG: WALSIN (華新); TOL: 1%; CREATE_NAME: Nathan; DIP&SMD: SMD; Vendor Code: *; SAP: T502249304399; Vendor Name: *; MFG Part: *; Type: Resistor; CREATE_TIME: 03-July-2016; Customer Specific: N/A
footprint 1206-RW
footprint 1206-SW
pins: 1, 2

## RES1206 1/4W 1% 300 OHM_WALSIN
designator R?, comment value 300R  PACKAGE: 1206  (hidden comment: T502300004399)
CHIP 300 OHM   100PPM +-1% 1206 WALS L; Power: 1/4W; MFG: WALSIN (華新); TOL: 1%; CREATE_NAME: Nathan; DIP&SMD: SMD; Vendor Code: *; SAP: T502300004399; Vendor Name: *; MFG Part: *; Type: Resistor; CREATE_TIME: 03-July-2016; Customer Specific: N/A
footprint 1206-RW
footprint 1206-SW
pins: 1, 2

## RES1206 1/4W 1% 300K OHM_WALSIN
designator R?, comment value 300K  PACKAGE: 1206  (hidden comment: T502300304399)
CHIP 300K OHM 100PPM +-1% 1206 WALS L; Power: 1/4W; MFG: WALSIN (華新); TOL: 1%; CREATE_NAME: Nathan; DIP&SMD: SMD; Vendor Code: *; SAP: T502300304399; Vendor Name: *; MFG Part: *; Type: Resistor; CREATE_TIME: 28-Apr-2017; Customer Specific: N/A
footprint 1206-RW
footprint 1206-SW
pins: 1, 2

## RES1206 1/4W 1% 330K OHM_WALSIN
designator R?, comment value 330K  PACKAGE: 1206  (hidden comment: T502330304399)
CHIP 330K OHM 100PPM +-1% 1206 WALS L; Power: 1/4W; MFG: WALSIN (華新); TOL: 1%; CREATE_NAME: Nathan; DIP&SMD: SMD; Vendor Code: *; SAP: T502330304399; Vendor Name: *; MFG Part: *; Type: Resistor; CREATE_TIME: 07-July-2020; Customer Specific: N/A
footprint 1206-RW
footprint 1206-SW
pins: 1, 2

## RES1206 1/4W 1% 470K OHM
designator R?, comment value 470K  PACKAGE: 1206  (hidden comment: QCF041010-4703)
CHIP RES 470K OHM 1/4W 1% 1206; Vendor Code: 10010262; SAP: T502470304399; Vendor Name: 东莞市晴远电子有限公司; DIP&SMD: SMD; Power: 1/4W; MFG Part: *; MFG: *; TOL: 1%; Type: Resistor; Customer Specific: N/A
footprint 1206-RW
footprint 1206-SW
pins: 1, 2

## RES1206 1/4W 1% 499 OHM
designator R?, comment value 499R  Power: 1/4W  PACKAGE: 1206  (hidden comment: QCF041010-4990)
GP CHIP RES. 499 OHM 1/4  W 1% 1206; Vendor Code: 10010262; SAP: T502499004399; Vendor Name: 东莞市晴远电子有限公司; DIP&SMD: SMD; MFG Part: *; MFG: *; TOL: 1%; Type: Resistor; Customer Specific: N/A
footprint 1206-RW
footprint 1206-SW
pins: 1, 2

## RES1206 1/4W 1% 510K OHM_WALSIN
designator R?, comment value 510K  PACKAGE: 1206  (hidden comment: T502510304399)
CHIP 510K OHM 100PPM +-1% 1206 WALS L; Power: 1/4W; MFG: WALSIN (華新); TOL: 1%; CREATE_NAME: Nathan; DIP&SMD: SMD; Vendor Code: *; SAP: T502510304399; Vendor Name: *; MFG Part: *; Type: Resistor; CREATE_TIME: 03-July-2016; Customer Specific: N/A
footprint 1206-RW
footprint 1206-SW
pins: 1, 2

## RES1206 1/4W 1% 680 OHM_WALSIN
designator R?, comment value 680R  PACKAGE: 1206  (hidden comment: T502680004399)
CHIP 680 OHM 100PPM +-1% 1206 WALS L; Power: 1/4W; MFG: WALSIN (華新); TOL: 1%; CREATE_NAME: Nathan; DIP&SMD: SMD; Vendor Code: *; SAP: T502680004399; Vendor Name: *; MFG Part: *; Type: Resistor; CREATE_TIME: 03-July-2016; Customer Specific: N/A
footprint 1206-RW
footprint 1206-SW
pins: 1, 2

## RES1206 1/4W 1% 820K OHM
designator R?, comment value 820K  PACKAGE: 1206  (hidden comment: QCF041010-8203)
CHIP RES 820K OHM 1/4W 1% 1206; Vendor Code: 10010262; SAP: T502820304399; Vendor Name: 东莞市晴远电子有限公司; DIP&SMD: SMD; Power: 1/4W; MFG Part: *; MFG: *; TOL: 1%; Type: Resistor; Customer Specific: N/A
footprint 1206-RW
footprint 1206-SW
pins: 1, 2

## RES1206 1/4W 1% 910K OHM
designator R?, comment value 910K  PACKAGE: 1206  (hidden comment: QCF041010-9103)
CHIP RES 910K OHM 1/4W 1% 1206; Vendor Code: 10010262; SAP: T502910304399; Vendor Name: 东莞市晴远电子有限公司; DIP&SMD: SMD; Power: 1/4W; MFG Part: *; MFG: *; TOL: 1%; Type: Resistor; Customer Specific: N/A
footprint 1206-RW
footprint 1206-SW
pins: 1, 2

## RES1206 1/4W 5% 0 OHM
designator R?, comment value 0R  PACKAGE: 1206  (hidden comment: QCF045010-0000)
GP CHIP RES. 0 OHM 1/4W 5% 1206; Vendor Code: 10010262; SAP: T502000004499; Vendor Name: 东莞市晴远电子有限公司; DIP&SMD: SMD; Power: 1/4W; MFG Part: *; MFG: *; TOL: 5%; Type: Resistor; Customer Specific: N/A
footprint 1206-RW
footprint 1206-SW
pins: 1, 2

## RES1206 1/4W 5% 1M OHM_WALSIN
designator R?, comment value 1M  PACKAGE: 1206  (hidden comment: T5020105044A9)
CHIP 1M OHM 200PPM +-5% 1206 WALS L; Power: 1/4W; MFG: WALSIN (華新); TOL: 5%; CREATE_NAME: Nathan; DIP&SMD: SMD; Vendor Code: *; SAP: T5020105044A9; Vendor Name: *; MFG Part: *; Type: Resistor; CREATE_TIME: 03-July-2016; Customer Specific: N/A
footprint 1206-RW
footprint 1206-SW
pins: 1, 2

## RES1206 1/4W 5% 2K OHM_WALSIN
designator R?  value 2K  PACKAGE: 1206  (hidden comment: *)
CHIP 2K OHM 100PPM +-5% 1206 WALSIN; MFG Part: WR12X202 JTR; Power: 1/4W; TOL: 5%; CREATE_NAME: Nathan; DIP&SMD: SMD; Vendor Code: *; SAP: *; Vendor Name: *; MFG: WALSIN; Type: Resistor; CREATE_TIME: 25-Sep-2020; Customer Specific: N/A
footprint 1206-RW
footprint 1206-SW
pins: 1, 2

## RES1206 1/4W 5% 2M OHM_WALSIN
designator R?, comment value 2M  PACKAGE: 1206  (hidden comment: T5020205044A9)
CHIP 2M OHM 200PPM +-5% 1206 WALS L; Power: 1/4W; MFG: WALSIN (華新); TOL: 5%; CREATE_NAME: Nathan; DIP&SMD: SMD; Vendor Code: *; SAP: T5020205044A9; Vendor Name: *; MFG Part: *; Type: Resistor; CREATE_TIME: 19-Sep-2017; Customer Specific: N/A
footprint 1206-RW
footprint 1206-SW
pins: 1, 2

## RES1206 1/4W 5% 4.7 OHM_WALSIN
designator R?, comment value 4R7  PACKAGE: 1206  (hidden comment: T502047A04499)
CHIP 4.7 OHM 100PPM +-5% 1206 WALS L; Power: 1/4W; MFG: WALSIN (華新); TOL: 5%; CREATE_NAME: Nathan; DIP&SMD: SMD; Vendor Code: *; SAP: T502047A04499; Vendor Name: *; MFG Part: *; Type: Resistor; CREATE_TIME: 03-July-2016; Customer Specific: N/A
footprint 1206-RW
footprint 1206-SW
pins: 1, 2

## RES1206 1/4W 5% 8.2 OHM_WALSIN
designator R?, comment value 8R2  PACKAGE: 1206  (hidden comment: T502082A04499)
CHIP 8.2 OHM   100PPM +-5% 1206 WALS; Power: 1/4W; MFG: WALSIN (華新); TOL: 5%; CREATE_NAME: Nathan; DIP&SMD: SMD; Vendor Code: *; SAP: T502082A04499; Vendor Name: *; MFG Part: *; Type: Resistor; CREATE_TIME: 03-July-2016; Customer Specific: N/A
footprint 1206-RW
footprint 1206-SW
pins: 1, 2

## RES1206 1/4W 5% 10 OHM
designator R?, comment value 10R  PACKAGE: 1206  (hidden comment: QCF045010-1000)
CHIP 10 OHM 100PPM +-5% 1206 WALS L; Vendor Code: 10010262; SAP: T502010004499; Power: 1/4W; Vendor Name: 东莞市晴远电子有限公司; MFG: WALSIN (華新); TOL: 5%; DIP&SMD: SMD; MFG Part: *; Type: Resistor; Customer Specific: N/A
footprint 1206-RW
footprint 1206-SW
pins: 1, 2

## RES1206 1/4W 5% 22 OHM
designator R?, comment value 22R  PACKAGE: 1206  (hidden comment: QCF045010-2200)
GP CHIP RES. 22 OHM 1/4W 5% 1206; Vendor Code: 10010262; SAP: T502022004499; Vendor Name: 东莞市晴远电子有限公司; DIP&SMD: SMD; Power: 1/4W; MFG Part: *; MFG: *; TOL: 5%; Type: Resistor; Customer Specific: N/A
footprint 1206-RW
footprint 1206-SW
pins: 1, 2

## RES1206 1/4W 5% 39 OHM_WALSIN
designator R?, comment value 39R  PACKAGE: 1206  (hidden comment: T502039004499)
CHIP 39 OHM 100PPM +-5% 1206 WALS L; Power: 1/4W; MFG: WALSIN (華新); TOL: 5%; CREATE_NAME: Nathan; DIP&SMD: SMD; Vendor Code: *; SAP: T502039004499; Vendor Name: *; MFG Part: *; Type: Resistor; CREATE_TIME: 03-July-2016; Customer Specific: N/A
footprint 1206-RW
footprint 1206-SW
pins: 1, 2

## RES1206 1/4W 5% 680 OHM_WALSIN
designator R?, comment value 680R  PACKAGE: 1206  (hidden comment: T502068104499)
CHIP 680 OHM 100PPM +-5% 1206 WALS L; Power: 1/4W; MFG: WALSIN (華新); TOL: 5%; CREATE_NAME: Nathan; DIP&SMD: SMD; Vendor Code: *; SAP: T502068104499; Vendor Name: *; MFG Part: *; Type: Resistor; CREATE_TIME: 03-July-2016; Customer Specific: N/A
footprint 1206-RW
footprint 1206-SW
pins: 1, 2

## RES1206 1/4W 5% 750K OHM_WALSIN
designator R?, comment value 750K  PACKAGE: 1206  (hidden comment: T502075404499)
CHIP 750K OHM 100PPM +-5% 1206 WALS L; Power: 1/4W; MFG: WALSIN (華新); TOL: 5%; CREATE_NAME: Nathan; DIP&SMD: SMD; Vendor Code: *; SAP: T502075404499; Vendor Name: *; MFG Part: *; Type: Resistor; CREATE_TIME: 25-July-2018; Customer Specific: N/A
footprint 1206-RW
footprint 1206-SW
pins: 1, 2

## RES1206 1W 1% 0.01 OHM_YAGEO
designator R?, comment value 0.01 OHM  (hidden comment: T710600049200)
0.01 OHM 50PPM +-1% 1206 YAGE K; MFG Part: PA1206FRE470R01L; TOL: 1%; MFG: YAGEO (國巨); Power: 1W; CREATE_NAME: Nathan; DIP&SMD: SMD; SAP: T710600049200; Package: 1206; Vendor Code: *; Vendor Name: *; Type: Resistor; CREATE_TIME: 10-Jun-2020; Customer Specific: N/A
footprint 1206-RW
footprint 1206-SW
pins: 1, 2

## RES1206 1W 1% 0.02 OHM_WALSIN
designator R?  value 0.02 OHM  (hidden comment: *)
CHIP 0.02 OHM +-1% 1206 WALSIN; MFG Part: WW12NR020FTL; TOL: 1%; Power: 1W; CREATE_NAME: Nathan; DIP&SMD: SMD; SAP: *; Package: 1206; MFG: WALSIN; Vendor Code: *; Vendor Name: *; Type: Resistor; CREATE_TIME: 14-Jul-2020; Customer Specific: N/A
footprint 1206-RW
footprint 1206-SW
pins: 1, 2

## RES1206 1W 1% 0.008 OHM_WALSIN
designator R?  value 0.008 OHM  (hidden comment: *)
CHIP 0.008 OHM 70PPM +-1% 1206 WALSIN; MFG Part: WW12KR008FTL; TOL: 1%; MFG: WALSIN (華新); Power: 1W; CREATE_NAME: Nathan; DIP&SMD: SMD; SAP: *; Package: 1206; Vendor Code: *; Vendor Name: *; Type: Resistor; CREATE_TIME: 09-July-2020; Customer Specific: N/A
footprint 1206-RW
footprint 1206-SW
pins: 1, 2

## RES1206 1W 1% 0.010 OHM
designator R?, comment value 0.010 OHM  (hidden comment: QCF101010-1006)
RES, 0.010 OHM, 1W, 1%, 1206, RoHS; SAP: T502100D043G9; CREATE_NAME: TOM@Deftronics; DIP&SMD: SMD; Package: 1206; TOL: 1%; MFG Part: *; MFG: *; Vendor Code: *; Vendor Name: *; Type: Resistor; Power: 1W; CREATE_TIME: 13-May-2014; Customer Specific: N/A
footprint 1206-RW
footprint 1206-SW
pins: 1, 2

## RES1206 1W 1% 0.015 OHM_WALSIN
designator R?, comment value 0.015 OHM  (hidden comment: T502150D043N9)
CHIP 0.015 OHM 70PPM +-1% 1206 WALS G; TOL: 1%; MFG: WALSIN (華新); Power: 1W; CREATE_NAME: Nathan; DIP&SMD: SMD; SAP: T502150D043N9; Package: 1206; MFG Part: *; Vendor Code: *; Vendor Name: *; Type: Resistor; CREATE_TIME: 03-July-2016; Customer Specific: N/A
footprint 1206-RW
footprint 1206-SW
pins: 1, 2

## RES1206 1W 1% 0.018 OHM_WALSIN
designator R?  value 0.018 OHM  (hidden comment: *)
CHIP 0.018 OHM +-1% 1206 WALSIN; MFG Part: WW12NR018FTL; TOL: 1%; Power: 1W; CREATE_NAME: Nathan; DIP&SMD: SMD; SAP: *; Package: 1206; MFG: WALSIN; Vendor Code: *; Vendor Name: *; Type: Resistor; CREATE_TIME: 14-Jul-2020; Customer Specific: N/A
footprint 1206-RW
footprint 1206-SW
pins: 1, 2

## RES1206 1W 1% 0.025 OHM_WALSIN
designator R?  value 0.025 OHM  (hidden comment: *)
CHIP 0.025 OHM +-1% 1206 WALSIN; MFG Part: WW12NR025FTL; TOL: 1%; MFG: WALSIN (華新); Power: 1W; CREATE_NAME: Nathan; DIP&SMD: SMD; SAP: *; Package: 1206; Vendor Code: *; Vendor Name: *; Type: Resistor; CREATE_TIME: 25-Aug-2020; Customer Specific: N/A
footprint 1206-RW
footprint 1206-SW
pins: 1, 2

## RES1210 1/2W 1% 0 OHM
designator R?, comment value 0R  Package: 1210  (hidden comment: T502000005009)
CHIP 0 OHM 0 OHM 0 OHM 1210 WALS L; MFG Part: WR10X000 PTL; TOL: 1%; MFG: WALSIN (華新); CREATE_NAME: Nathan; Power: 1/2W; DIP&SMD: SMD; SAP: T502000005009; Vendor Code: *; Vendor Name: *; Type: Resistor; CREATE_TIME: 18-Aug-2020; Customer Specific: N/A
footprint 1210-RW
footprint 1210-SW
pins: 1, 2

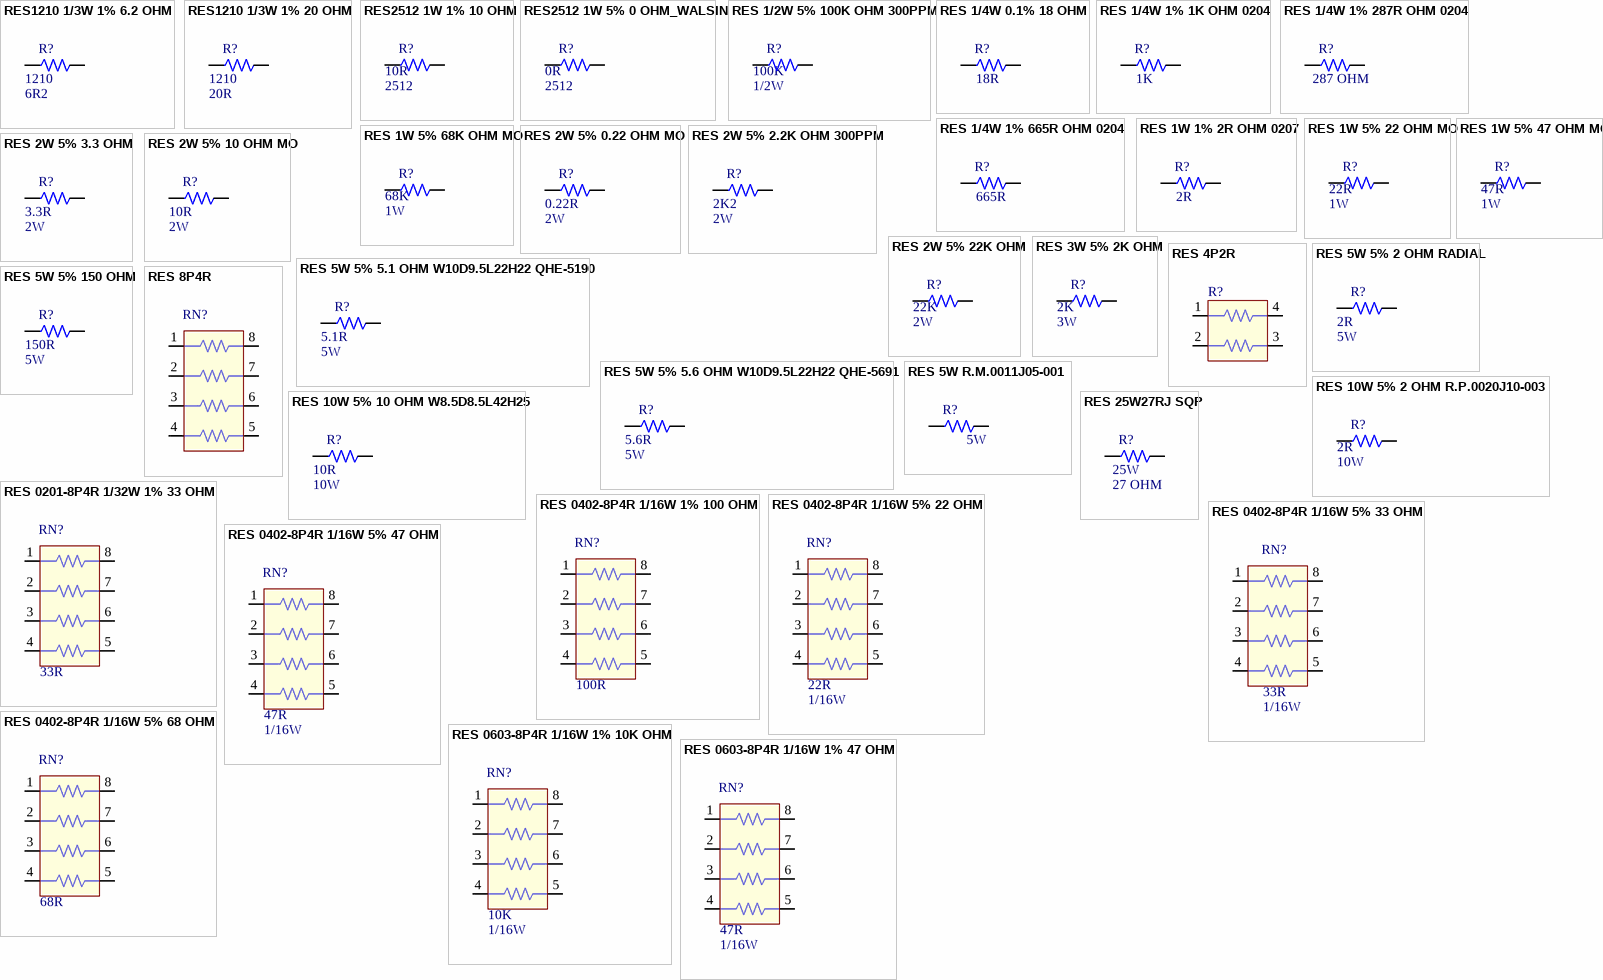
[diagram p22: symbols RES1210 1/3W 1% 6.2 OHM to RES 0603-8P4R 1/16W 1% 47 OHM]

## RES1210 1/3W 1% 6.2 OHM
designator R?, comment value 6R2  Package: 1210  (hidden comment: QCF031040-6208)
CHIP RES 6.2 OHM 1/3W 1% 1210; SAP: T502620B05399; CREATE_NAME: Tom; DIP&SMD: SMD; TOL: 1%; MFG Part: *; MFG: *; Vendor Code: *; Vendor Name: *; Type: Resistor; CREATE_TIME: 23-Apr-2015; Power: 1/3W; Customer Specific: N/A
footprint 1210-RW
pins: 1, 2

## RES1210 1/3W 1% 20 OHM
designator R?, comment value 20R  Package: 1210  (hidden comment: QCF031040-2009)
CHIP RES 20 OHM 1/3W 1% 1210; SAP: T502200A05399; CREATE_NAME: Tom; DIP&SMD: SMD; TOL: 1%; MFG Part: *; MFG: *; Vendor Code: *; Vendor Name: *; Type: Resistor; CREATE_TIME: 23-Apr-2015; Power: 1/3W; Customer Specific: N/A
footprint 1210-RW
pins: 1, 2

## RES2512 1W 1% 10 OHM
designator R?, comment value 10R  PACKAGE: 2512  (hidden comment: QCF101250-1009)
CHIP RES. 10 OHM 1W 1% 2512; Vendor Code: 10010262; SAP: T502100A07399; Vendor Name: 东莞市晴远电子有限公司; DIP&SMD: SMD; Power: 1W; MFG Part: *; MFG: *; TOL: 1%; Type: Resistor; Customer Specific: N/A
footprint 2512 (Chip Resistor; Body 6.4 x 3.2 mm (LxW typ))
pins: 1, 2

## RES2512 1W 5% 0 OHM_WALSIN
designator R?, comment value 0R  PACKAGE: 2512  (hidden comment: T5020000074A9)
CHIP 0 OHM 200PPM +-5% 2512 WALS L; Power: 1W; MFG: WALSIN; TOL: 5%; DIP&SMD: SMD; CREATE_NAME: Nathan; Vendor Code: *; SAP: T5020000074A9; Vendor Name: *; MFG Part: *; Type: Resistor; Customer Specific: N/A; CERATE_TIME: 07-Aug-2020
footprint 2512 (Chip Resistor; Body 6.4 x 3.2 mm (LxW typ))
pins: 1, 2

## RES 1/2W 5% 100K OHM 300PPM
designator R?, comment value 100K  Power: 1/2W  (hidden comment: T51301041549D)
DIP 100K OHM 300PPM 1\2W +-5% QING K; TOL: 5%; MFG: QING YUAN (晴遠); CREATE_NAME: Nathan; SAP: T51301041549D; Package: 1/2W; MFG Part: *; Vendor Code: *; Vendor Name: *; Type: Resistor; CREATE_TIME: 14-Aug-2017; DIP&SMD: DIP; Customer Specific: N/A
footprint 1/2W-V (Resistor,Axial,1/2W, Vertical 5mm C X 0.8 W 9mm LX3.5mm)
footprint 1/2W-H (Resistor,Axial,1/2W 12.5mm C X 0.8 W 9mm LX3.5mm)
pins: 1, 2

## RES 1/4W 0.1% 18 OHM
designator R?, comment value 18R  (hidden comment: T710600014000)
MELF RESISTOR 18 OHM 50PPM +-1% 0204 G; MFG Part: RJM74P0204F2T18R00; TOL: 0.1%; MFG: QING YUAN; Power: 1/4W; CREATE_NAME: Tom; DIP&SMD: SMD; SAP: T710600014000; Vendor Code: *; Vendor Name: *; Type: Resistor; CREATE_TIME: 14-Apr-2016; Customer Specific: N/A
footprint RJM74P0204
pins: 1, 2

## RES 1/4W 1% 1K OHM 0204
designator R?, comment value 1K  (hidden comment: T710600017500)
MELF RESISTOR 1K OHM 50PPM +-1% 0204 K; MFG Part: RJM74P0204F2T1001; TOL: 1%; MFG: QING YUAN; Power: 1/4W; CREATE_NAME: Nathan; DIP&SMD: SMD; SAP: T710600017500; Vendor Code: *; Vendor Name: *; Type: Resistor; CREATE_TIME: 20-Dec-2017; Customer Specific: N/A
footprint RJM74P0204
pins: 1, 2

## RES 1/4W 1% 287R OHM 0204
designator R?, comment value 287 OHM  (hidden comment: T710600017700)
MELF RESISTOR 287 OHM 1% +\-50PPM 0204 K; MFG Part: RJM74P0204F2T2870; MFG: QING YUAN; Power: 1/4W; CREATE_NAME: Tom; DIP&SMD: SMD; SAP: T710600017700; Package: 0204; TOL: 1%; Vendor Code: *; Vendor Name: *; Type: Resistor; CREATE_TIME: 27-Jun-2018; Customer Specific: N/A
footprint RJM74P0204
pins: 1, 2

## RES 1/4W 1% 665R OHM 0204
designator R?, comment value 665R  (hidden comment: T710600017600)
MELF RESISTOR 665R OHM 50PPM +-1% 0204 K; MFG Part: RJM74P0204F2T6650; TOL: 1%; MFG: QING YUAN; Power: 1/4W; CREATE_NAME: Nathan; DIP&SMD: SMD; SAP: T710600017600; Vendor Code: *; Vendor Name: *; Type: Resistor; CREATE_TIME: 20-Dec-2017; Customer Specific: N/A
footprint RJM74P0204
pins: 1, 2

## RES 1W 1% 2R OHM 0207
designator R?  value 2R
RJM76M0207F1T2R00; TOL: 1%; MFG: QING YUAN; Power: 1W; CREATE_NAME: Nathan; DIP&SMD: SMD; SAP: *; MFG Part: RJM76M0207F1T2R00; Vendor Code: *; Vendor Name: *; Type: Resistor; CREATE_TIME: 17-Mar-2021; Customer Specific: N/A
footprint RJM76M0207 (L5.7XD2.2)
pins: 1, 2

## RES 1W 5% 22 OHM MO
designator R?, comment value 22R  Power: 1W  (hidden comment: QHM105000-2200)
METAL FILM RESISTOR 22 OHM 1W 5%; MFG Part: RES 1W 5% 22 OHM MO; SAP: T5130220155DD; MFG: 晴远; Vendor Code: 10010262; Vendor Name: 东莞市晴远电子有限公司; DIP&SMD: DIP; Package: 1W; TOL: 5%; Type: Resistor; Customer Specific: N/A
footprint 1W-H (Resistor,Axial,1W 17.78mm C X 0.8 W 11mm LX4.5mm)
footprint 1W-V-1 (Resistor,Axial,1W Vertical  5mm C X 0.8 W 11mm LX4.5mm)
footprint 1W-V-2 (Resistor,Axial,1W Vertical  5mm C X 0.8 W 11mm LX4.5mm)
pins: 1, 2

## RES 1W 5% 47 OHM MO
designator R?, comment value 47R  Power: 1W  (hidden comment: QVM105000-4700)
METAL FILM RESISTOR 47 OHM 1W 5%; MFG Part: RES 1W 5% 47 OHM MO; SAP: T5130470155DD; MFG: 晴远; Vendor Code: 10010262; Vendor Name: 东莞市晴远电子有限公司; DIP&SMD: DIP; Package: 1W; TOL: 5%; Type: Resistor; Customer Specific: N/A
footprint 1W-H (Resistor,Axial,1W 17.78mm C X 0.8 W 11mm LX4.5mm)
footprint 1W-V-1 (Resistor,Axial,1W Vertical  5mm C X 0.8 W 11mm LX4.5mm)
footprint 1W-V-2 (Resistor,Axial,1W Vertical  5mm C X 0.8 W 11mm LX4.5mm)
pins: 1, 2

## RES 1W 5% 68K OHM MO
designator R?, comment value 68K  Power: 1W  (hidden comment: QVM105000-6830)
METAL FILM RESISTOR 68K OHM 1W 5%; MFG Part: RES 1W 5% 68K OHM MO; SAP: T5130683155DD; MFG: 晴远; Vendor Code: 10010262; Vendor Name: 东莞市晴远电子有限公司; DIP&SMD: DIP; Package: 1W; TOL: 5%; Type: Resistor; Customer Specific: N/A
footprint 1W-H (Resistor,Axial,1W 17.78mm C X 0.8 W 11mm LX4.5mm)
footprint 1W-V-1 (Resistor,Axial,1W Vertical  5mm C X 0.8 W 11mm LX4.5mm)
footprint 1W-V-2 (Resistor,Axial,1W Vertical  5mm C X 0.8 W 11mm LX4.5mm)
pins: 1, 2

## RES 2W 5% 0.22 OHM MO
designator R?, comment value 0.22R  Power: 2W  (hidden comment: QVM205000-2280)
METAL FILM RESISTOR 0.22 OHM 2W 5%; MFG Part: RES 2W 5% 0.22 OHM MO; SAP: T513022B156DD; MFG: 晴远; Vendor Code: 10010262; Vendor Name: 东莞市晴远电子有限公司; DIP&SMD: DIP; Package: 2W; TOL: 5%; Type: Resistor; Customer Specific: N/A
footprint 2W-H (Resistor,Axial,2W 20mm C X 1.1 W 15mm LX5mm)
footprint 2W-V-1 (Resistor,Axial,2W Vertical  5mm C X 1.1mm W 15mm LX5mm)
footprint 2W-V-2 (Resistor,Axial,2W Vertical  5mm C X 1.1mm W 15mm LX5mm)
pins: 1, 2

## RES 2W 5% 2.2K OHM 300PPM
designator R?, comment value 2K2  Power: 2W  (hidden comment: T51302221569D)
DIP 2.2K OHM 300PPM 2W +-5% QING K; MFG Part: RES 2W 5% 2.2K OHM MO; TOL: 5%; MFG: QING YUAN (晴遠); Vendor Code: 10010262; Vendor Name: 东莞市晴远电子有限公司; CREATE_NAME: Nathan; SAP: T51302221569D; Package: 2W; Type: Resistor; CREATE_TIME: 14-Aug-2017; DIP&SMD: DIP; Customer Specific: N/A
footprint 2W-H (Resistor,Axial,2W 20mm C X 1.1 W 15mm LX5mm)
footprint 2W-V-1 (Resistor,Axial,2W Vertical  5mm C X 1.1mm W 15mm LX5mm)
footprint 2W-V-2 (Resistor,Axial,2W Vertical  5mm C X 1.1mm W 15mm LX5mm)
pins: 1, 2

## RES 2W 5% 3.3 OHM
designator R?, comment value 3.3R  Power: 2W  (hidden comment: QVO205007-3330)
DIP 3.3 OHM MO 2W +-5% XING G; MFG Part: RES 2W 5% 3.3 OHM; SAP: T513033A156DE; TOL: 5%; MFG: Xingdacheng; Vendor Code: 10008495; Vendor Name: 深圳市兴达诚电子有限公司; CREATE_NAME: Nathan; Package: 2W; Type: Resistor; DIP&SMD: DIP; Customer Specific: N/A; CREATE_TIME: 01-Dec-2020
footprint 2W-H (Resistor,Axial,2W 20mm C X 1.1 W 15mm LX5mm)
footprint 2W-V-1 (Resistor,Axial,2W Vertical  5mm C X 1.1mm W 15mm LX5mm)
footprint 2W-V-2 (Resistor,Axial,2W Vertical  5mm C X 1.1mm W 15mm LX5mm)
pins: 1, 2

## RES 2W 5% 10 OHM MO
designator R?, comment value 10R  Power: 2W  (hidden comment: T5130100156DD)
DIP 10 OHM MO 2W +-5% QING K; MFG Part: RES 2W 5% 10 OHM MO; TOL: 5%; MFG: QING YUAN (晴遠); Vendor Code: 10010262; Vendor Name: 东莞市晴远电子有限公司; CREATE_NAME: Nathan; SAP: T5130100156DD; Package: 2W; Type: Resistor; CREATE_TIME: 14-Aug-2017; DIP&SMD: DIP; Customer Specific: N/A
footprint 2W-H (Resistor,Axial,2W 20mm C X 1.1 W 15mm LX5mm)
footprint 2W-V-1 (Resistor,Axial,2W Vertical  5mm C X 1.1mm W 15mm LX5mm)
footprint 2W-V-2 (Resistor,Axial,2W Vertical  5mm C X 1.1mm W 15mm LX5mm)
pins: 1, 2

## RES 2W 5% 22K OHM
designator R?, comment value 22K  Power: 2W  (hidden comment: T5130223156DD)
DIP 22K OHM MO 2W +-5% QING G; MFG Part: RES 2W 5% 22K OHM; TOL: 5%; MFG: QING YUAN (晴遠); Vendor Code: 10010262; Vendor Name: 东莞市晴远电子有限公司; SAP: T5130223156DD; Package: 2W; Type: Resistor; DIP&SMD: DIP; Customer Specific: N/A
footprint 2W-H (Resistor,Axial,2W 20mm C X 1.1 W 15mm LX5mm)
footprint 2W-V-1 (Resistor,Axial,2W Vertical  5mm C X 1.1mm W 15mm LX5mm)
footprint 2W-V-2 (Resistor,Axial,2W Vertical  5mm C X 1.1mm W 15mm LX5mm)
pins: 1, 2